# Altium schematic symbol library MMBT2222A-7-F.SchLib: 1 symbol
Pins are listed as number, name and electrical type; pins without a type are passive.

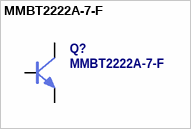
[diagram p0: symbol MMBT2222A-7-F]

## MMBT2222A-7-F
designator Q?
pins: 1 B, 2 E, 3 C